# Altium schematic symbol library IP175G.SchLib: 1 symbol
Pins are listed as number, name and electrical type; pins without a type are passive.

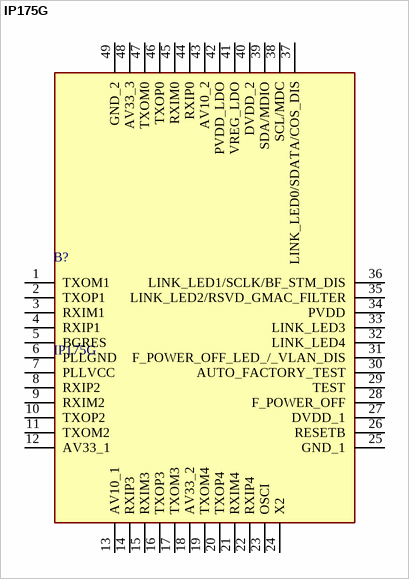
[diagram p0: symbol IP175G]

## IP175G
designator B?
5 Port 10/100 Ethernet Integrated Switch (85nm /Extreme Low Power, PWMT and AFT ); Manufacturer_Name: IC+; Geometry.Height: 0.9mm; Manufacturer_Part_Number: IP175G; Mouser Part Number: *; Mouser Price/Stock: *; Arrow Part Number: *; Arrow Price/Stock: *; Datasheet Link: *
footprint QFN40P600X600X90-49N-D
pins: 1 TXOM1, 2 TXOP1, 3 RXIM1, 4 RXIP1, 5 BGRES, 6 PLLGND, 7 PLLVCC, 8 RXIP2, 9 RXIM2, 10 TXOP2, 11 TXOM2, 12 AV33_1, 13 AV10_1, 14 RXIP3, 15 RXIM3, 16 TXOP3, 17 TXOM3, 18 AV33_2, 19 TXOM4, 20 TXOP4, 21 RXIM4, 22 RXIP4, 23 OSCI, 24 X2, 25 GND_1, 26 RESETB, 27 DVDD_1, 28 F_POWER_OFF, 29 TEST, 30 AUTO_FACTORY_TEST, 31 F_POWER_OFF_LED_/_VLAN_DIS, 32 LINK_LED4, 33 LINK_LED3, 34 PVDD, 35 LINK_LED2/RSVD_GMAC_FILTER, 36 LINK_LED1/SCLK/BF_STM_DIS, 37 LINK_LED0/SDATA/COS_DIS, 38 SCL/MDC, 39 SDA/MDIO, 40 DVDD_2, 41 VREG_LDO, 42 PVDD_LDO, 43 AV10_2, 44 RXIP0, 45 RXIM0, 46 TXOP0, 47 TXOM0, 48 AV33_3, 49 GND_2